# EAGLE library part HRM1017 (library mbed-HDK-MF-NORDIC)
Hosiden Bluetooth® v4.0 (single mode) / QDID:B020660 / IC:nRF51822(Nordic)
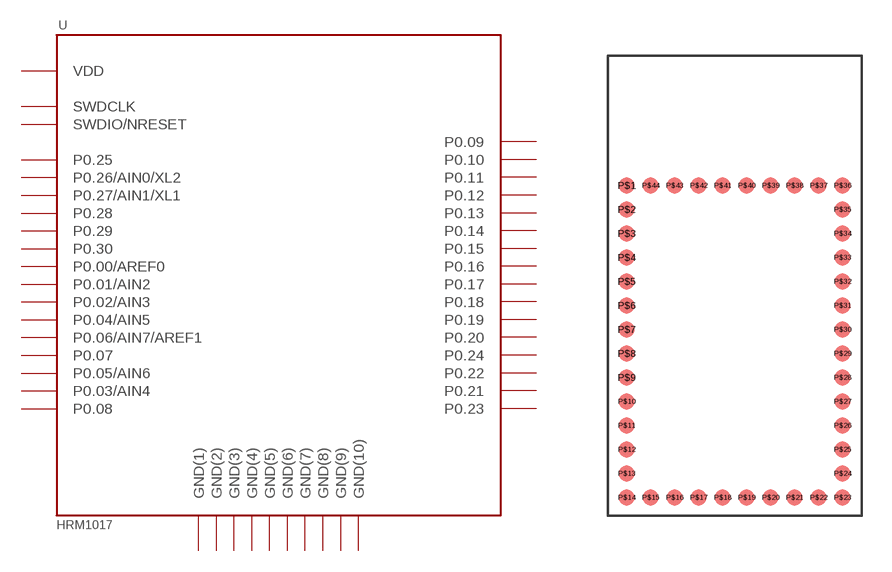
[diagram p2: symbol with the pads of HRM1017; footprint HRM1017]

Designator prefix U

## HRM1017 (MF: Hosiden; MFN: HRM1017)  [HRM1017]
P$1  P0.25
P$2  P0.26/AIN0/XL2
P$3  P0.27/AIN1/XL1
P$4  P0.28
P$5  P0.29
P$6  P0.30
P$7  P0.00/AREF0
P$8  P0.01/AIN2
P$9  P0.02/AIN3
P$10  P0.04/AIN5
P$11  P0.06/AIN7/AREF1
P$12  P0.07
P$13  P0.05/AIN6
P$14  GND(1)
P$15  VDD
P$16  P0.03/AIN4
P$17  P0.08
P$18  P0.09
P$19  P0.10
P$20  P0.11
P$21  P0.12
P$22  P0.13
P$23  P0.14
P$24  P0.15
P$25  P0.16
P$26  SWDCLK
P$27  SWDIO/NRESET
P$28  P0.17
P$29  P0.18
P$30  P0.19
P$31  P0.20
P$32  P0.24
P$33  P0.22
P$34  P0.21
P$35  P0.23
P$36  GND(2)
P$37  GND(3)
P$38  GND(4)
P$39  GND(5)
P$40  GND(6)
P$41  GND(7)
P$42  GND(8)
P$43  GND(9)
P$44  GND(10)

## Footprint HRM1017 (pad centres in mm)
smd 0.8 x 0.8: P$1 0,0; P$2 0,-1.2; P$3 0,-2.4; P$4 0,-3.6; P$5 0,-4.8; P$6 0,-6; P$7 0,-7.2; P$8 0,-8.4; P$9 0,-9.6; P$10 0,-10.8; P$11 0,-12; P$12 0,-13.2; P$13 0,-14.4; P$14 0,-15.6; P$15 1.2,-15.6; P$16 2.4,-15.6; P$17 3.6,-15.6; P$18 4.8,-15.6; P$19 6,-15.6; P$20 7.2,-15.6; P$21 8.4,-15.6; P$22 9.6,-15.6; P$23 10.8,-15.6; P$24 10.8,-14.4; P$25 10.8,-13.2; P$26 10.8,-12; P$27 10.8,-10.8; P$28 10.8,-9.6; P$29 10.8,-8.4; P$30 10.8,-7.2; P$31 10.8,-6; P$32 10.8,-4.8; P$33 10.8,-3.6; P$34 10.8,-2.4; P$35 10.8,-1.2; P$36 10.8,0; P$37 9.6,0; P$38 8.4,0; P$39 7.2,0; P$40 6,0; P$41 4.8,0; P$42 3.6,0; P$43 2.4,0; P$44 1.2,0